# EAGLE library part PI-A/Z-SMD (library fruit-parts)
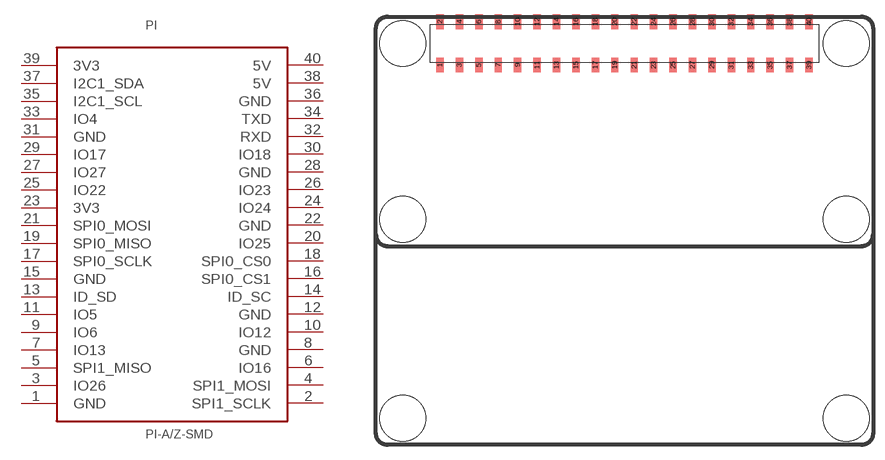
[diagram p1: symbol with the pads of PI_SMD; footprint PI_SMD]

Designator prefix PI

## PI-A/Z-SMD  [PI_SMD]
1  GND  pwr
2  SPI1_SCLK
3  IO26
4  SPI1_MOSI
5  SPI1_MISO
6  IO16
7  IO13
8  GND  pwr
9  IO6
10  IO12
11  IO5
12  GND  pwr
13  ID_SD
14  ID_SC
15  GND  pwr
16  SPI0_CS1
17  SPI0_SCLK
18  SPI0_CS0
19  SPI0_MISO
20  IO25
21  SPI0_MOSI
22  GND  pwr
23  3V3  pwr
24  IO24
25  IO22
26  IO23
27  IO27
28  GND  pwr
29  IO17
30  IO18
31  GND  pwr
32  RXD
33  IO4
34  TXD
35  I2C1_SCL
36  GND  pwr
37  I2C1_SDA
38  5V  pwr
39  3V3  pwr
40  5V  pwr

## Footprint PI_SMD (pad centres in mm)
Pi Header using SMD header with markers for holes for both Pi zero and 3, but no drills so they don't have to be populated Header is http://onecall.farnell.com/harwin/m20-7872042/socket-bottom-entry-smt-20x20way/dp/1256663
smd 1.02 x 1.85: 1 -24.13,21.675; 2 -24.13,27.325; 3 -21.59,21.675; 4 -21.59,27.325; 5 -19.05,21.675; 6 -19.05,27.325; 7 -16.51,21.675; 8 -16.51,27.325; 9 -13.97,21.675; 10 -13.97,27.325; 11 -11.43,21.675; 12 -11.43,27.325; 13 -8.89,21.675; 14 -8.89,27.325; 15 -6.35,21.675; 16 -6.35,27.325; 17 -3.81,21.675; 18 -3.81,27.325; 19 -1.27,21.675; 20 -1.27,27.325; 21 1.27,21.675; 22 1.27,27.325; 23 3.81,21.675; 24 3.81,27.325; 25 6.35,21.675; 26 6.35,27.325; 27 8.89,21.675; 28 8.89,27.325; 29 11.43,21.675; 30 11.43,27.325; 31 13.97,21.675; 32 13.97,27.325; 33 16.51,21.675; 34 16.51,27.325; 35 19.05,21.675; 36 19.05,27.325; 37 21.59,21.675; 38 21.59,27.325; 39 24.13,21.675; 40 24.13,27.325